# Altium footprint library PCB - CONNECTOR - JST - JST SF7W006S4ER1500.PCBLIB: 1 footprints
Each footprint in its own frame and in the unit in brackets; x right, y up, seen from the top. Pads: shape width x height; smd on the part's side, far side on the other; paste and mask are expansions set on the pad; w line width, h text height; cw(c..) or ccw(c..) is an arc to the next point about the centre after c.
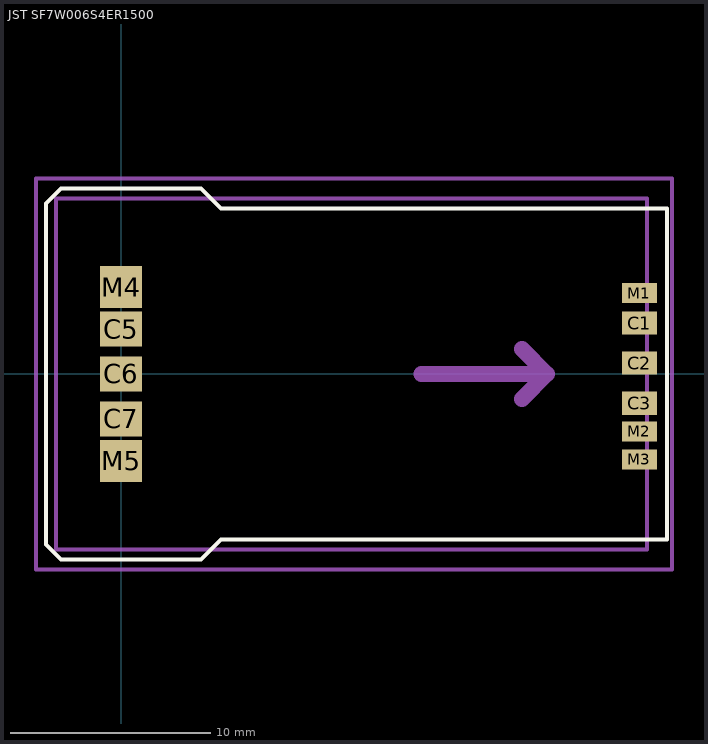
[diagram p0: the footprint, top view; thin cyan lines are the x and y axes]

## JST SF7W006S4ER1500 [mm]
height 7
pads (11):
  rect 1.75x1.15 smd mask+0.1: C1(25.86,2.54) C2(25.86,0.54) C3(25.86,-1.46)
  rect 2.1x1.75 smd mask+0.1: C5(0,2.24) C6(0,0) C7(0,-2.24)
  rect 1.75x1 smd mask+0.1: M1(25.86,4.04) M2(25.86,-2.86) M3(25.86,-4.26)
  rect 2.1x2.1 smd mask+0.1: M4(0,4.34) M5(0,-4.34)
Top Overlay:
  lines w0.2: -3.75,-8.5 -3.75,8.5 -3,9.25 4,9.25 5,8.25 27.25,8.25 27.25,-8.25 5,-8.25 4,-9.25 -3,-9.25 -3.75,-8.5
Mechanical 1:
  lines w0.2: -3.25,-8.75 -3.25,8.75 26.25,8.75 26.25,-8.75 -3.25,-8.75
  lines w0.8: 15,0 21.25,0 ; 20,-1.25 21.25,0 ; 20,1.25 21.25,0
  text "OPENS  / THIS WAY" at 7.383,5.881 h1.37
Mechanical 15:
  lines w0.2: -0.5,0 0.5,0 ; 0,-0.5 0,0.5 ; -4.25,-9.75 27.5,-9.75 27.5,9.75 -4.25,9.75 -4.25,-9.75
3D body "JAE SF7W006S4E-R1.STEP": height 1.9, standoff 0, extent -3.3,-8.75 26.3,8.8